# EAGLE library part 362MICRO (library 362 parts)
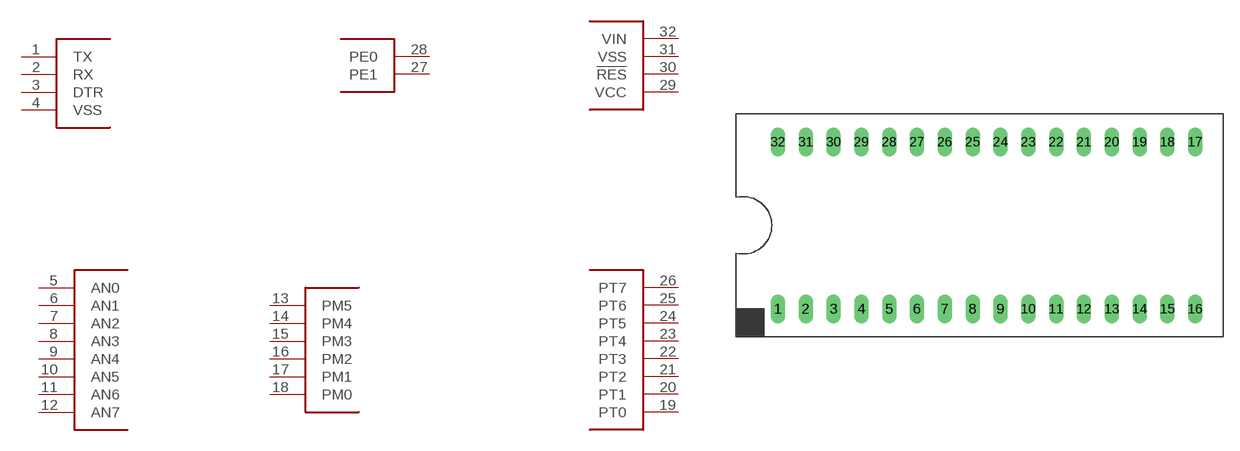
[diagram p0: symbol with the pads of 40P; footprint 40P]

Designator prefix U; gates G$1=AN G$2=COM G$4=PE G$5=POWER G$6=PT G$3=PM

## 362MICRO362MICRO  [40P]
1  G$2:TX
2  G$2:RX
3  G$2:DTR
4  G$2:VSS
5  G$1:AN0
6  G$1:AN1
7  G$1:AN2
8  G$1:AN3
9  G$1:AN4
10  G$1:AN5
11  G$1:AN6
12  G$1:AN7
13  G$3:PM5
14  G$3:PM4
15  G$3:PM3
16  G$3:PM2
17  G$3:PM1
18  G$3:PM0
19  G$6:PT0
20  G$6:PT1
21  G$6:PT2
22  G$6:PT3
23  G$6:PT4
24  G$6:PT5
25  G$6:PT6
26  G$6:PT7
27  G$4:PE1
28  G$4:PE0
29  G$5:VCC
30  G$5:!RES
31  G$5:VSS
32  G$5:VIN

## Footprint 40P (pad centres in mm)
DIL CABLE CONNECTOR
drill 0.813 long: 1 -24.13,-7.62; 2 -21.59,-7.62; 3 -19.05,-7.62; 4 -16.51,-7.62; 5 -13.97,-7.62; 6 -11.43,-7.62; 7 -8.89,-7.62; 8 -6.35,-7.62; 9 -3.81,-7.62; 10 -1.27,-7.62; 11 1.27,-7.62; 12 3.81,-7.62; 13 6.35,-7.62; 14 8.89,-7.62; 15 11.43,-7.62; 16 13.97,-7.62; 17 13.97,7.62; 18 11.43,7.62; 19 8.89,7.62; 20 6.35,7.62; 21 3.81,7.62; 22 1.27,7.62; 23 -1.27,7.62; 24 -3.81,7.62; 25 -6.35,7.62; 26 -8.89,7.62; 27 -11.43,7.62; 28 -13.97,7.62; 29 -16.51,7.62; 30 -19.05,7.62; 31 -21.59,7.62; 32 -24.13,7.62